# EAGLE library part CPL-CON-JST-2.0MM-6P-SMT-VRT (library TinWhiskers)
Connector: 2.0MM Pitch, 2-Pin; Package: SMT, Vertical; Datasheet: http://www.jst-mfg.com/product/pdf/eng/ePH.pdf
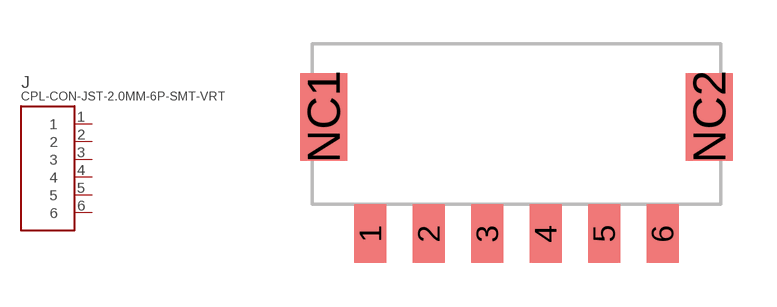
[diagram p45: symbol with the pads of CON-JST-PH-2.00MM-6P-SMT-VRT; footprint CON-JST-PH-2.00MM-6P-SMT-VRT]

Designator prefix J

## CPL-CON-JST-2.0MM-6P-SMT-VRT  [CON-JST-PH-2.00MM-6P-SMT-VRT]
1  1
2  2
3  3
4  4
5  5
6  6

## Footprint CON-JST-PH-2.00MM-6P-SMT-VRT (pad centres in mm)
Connector: 2.0MM Pitch, 6-Pin, (JST: B6B-PH-SM4-TB(LF)(SN)); Package: SMT, Vertical; Datasheet: http://www.jst-mfg.com/product/pdf/eng/ePH.pdf
smd 1.1 x 2: 1 -5,0; 2 -3,0; 3 -1,0; 4 1,0; 5 3,0; 6 5,0
smd 1.6 x 3: NC1 -6.6,4; NC2 6.6,4